# EAGLE library part 691314520123 (library Terminal_Blocks_Connectors_rev15e)
WR-TBL Serie 314 - 5.08mm Close 45° PCB Header with Flanges , 23 pins=>Code : WR-TBL_314_691314520123 <http://katalog.we-online.de/media/images/eican/WR-TBL_314_691314520103_pf2.jpg> Details see: http://katalog.we-online.de/en/em/691_314_520_1xx Created 2014-06-25, Karrer Zheng 2014 (C) Würth Elektronik
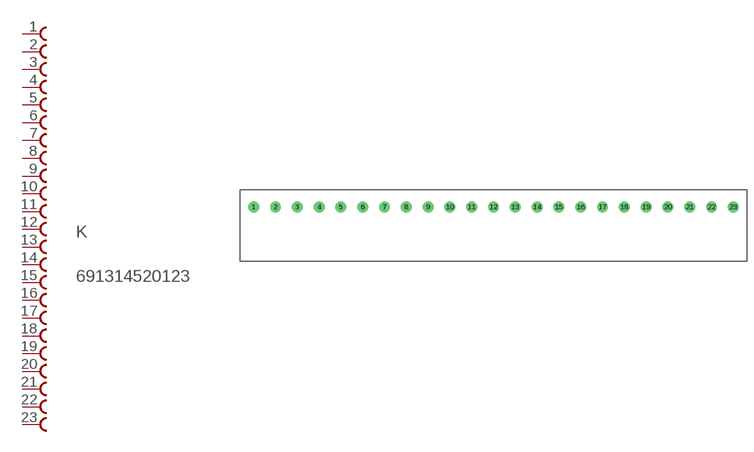
[diagram p169: symbol with the pads of 691314520123; footprint 691314520123]

Designator prefix K

## 691314520123  [691314520123]
1  1  pas
2  2  pas
3  3  pas
4  4  pas
5  5  pas
6  6  pas
7  7  pas
8  8  pas
9  9  pas
10  10  pas
11  11  pas
12  12  pas
13  13  pas
14  14  pas
15  15  pas
16  16  pas
17  17  pas
18  18  pas
19  19  pas
20  20  pas
21  21  pas
22  22  pas
23  23  pas

## Footprint 691314520123 (pad centres in mm)
WR-TBL Serie 314 - 5.08mm Close 45° PCB Header with Flanges , 23 pins
drill 1.7: 1 -60.96,0; 2 -55.88,0; 3 -50.8,0; 4 -45.72,0; 5 -40.64,0; 6 -35.56,0; 7 -30.48,0; 8 -25.4,0; 9 -20.32,0; 10 -15.24,0; 11 -10.16,0; 12 -5.08,0; 13 0,0; 14 5.08,0; 15 10.16,0; 16 15.24,0; 17 20.32,0; 18 25.4,0; 19 30.48,0; 20 35.56,0; 21 40.64,0; 22 45.72,0; 23 50.8,0